# EAGLE library part 87758-12 (library con-molex-milli-grid)
HEADER
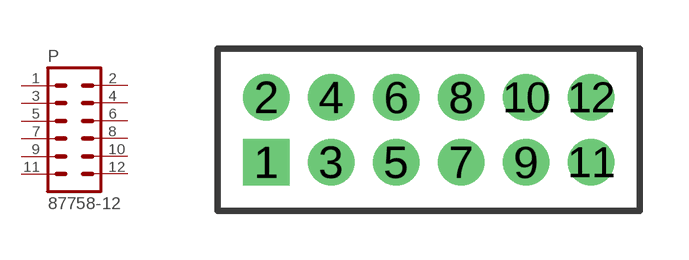
[diagram p3: symbol with the pads of 87758-12; footprint 87758-12]

Designator prefix P

## 87758-12  [87758-12]
1  1  pas
2  2  pas
3  3  pas
4  4  pas
5  5  pas
6  6  pas
7  7  pas
8  8  pas
9  9  pas
10  10  pas
11  11  pas
12  12  pas

## Footprint 87758-12 (pad centres in mm)
HEADER Dual Row, Vertical
drill 0.914 square: 1 -5,-1
drill 0.914: 2 -5,1; 3 -3,-1; 4 -3,1; 5 -1,-1; 6 -1,1; 7 1,-1; 8 1,1; 9 3,-1; 10 3,1; 11 5,-1; 12 5,1